# EAGLE library part FIREFLY_ATTINY45 (library firefly2_auto_thruhole)
Atmel ATTiny45
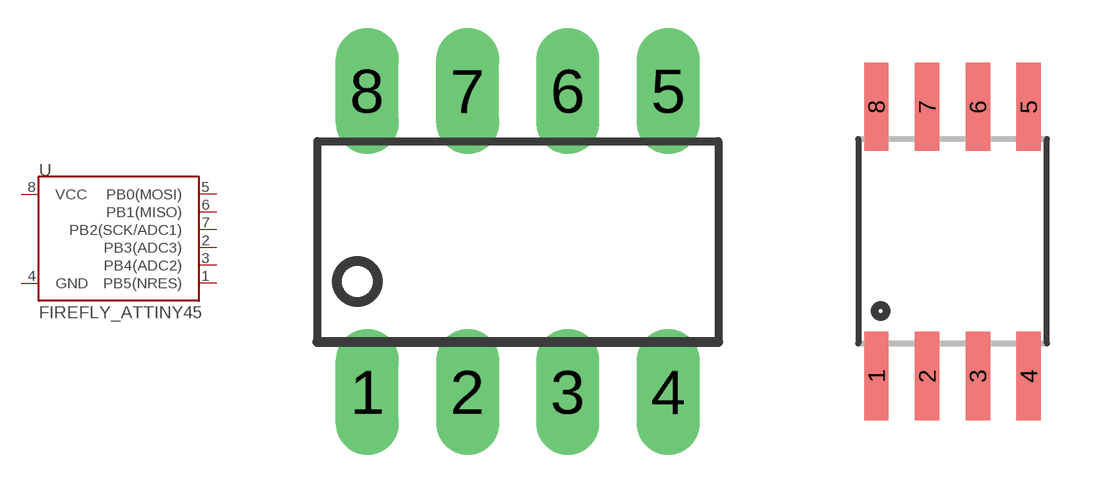
[diagram p0: symbol with the pads of FIREFLY_DIP08; footprints FIREFLY_DIP08, FIREFLY_SO08-EIAJ]

Designator prefix -

## FIREFLY_ATTINY45DIP08  [FIREFLY_DIP08]
1  PB5(NRES)
2  PB3(ADC3)
3  PB4(ADC2)
4  GND
5  PB0(MOSI)
6  PB1(MISO)
7  PB2(SCK/ADC1)
8  VCC

## FIREFLY_ATTINY45SO8  [FIREFLY_SO08-EIAJ]
Pads as for FIREFLY_DIP08

## Footprint FIREFLY_DIP08 (pad centres in mm)
Dual In Line
drill 0.813 pad 1.6 long: 1 -3.81,-3.81; 2 -1.27,-3.81; 3 1.27,-3.81; 4 3.81,-3.81; 5 3.81,3.81; 6 1.27,3.81; 7 -1.27,3.81; 8 -3.81,3.81

## Footprint FIREFLY_SO08-EIAJ (pad centres in mm)
Fits EIAJ packages (wide version of the SOIC-8).
smd 0.61 x 2.21: 1 -1.905,-3.378; 2 -0.635,-3.378; 3 0.635,-3.378; 4 1.905,-3.378; 5 1.905,3.353; 6 0.635,3.353; 7 -0.635,3.353; 8 -1.905,3.353